# EAGLE library part LT3645 (library PowerProducts)
LT-Spice library generated with : ltspice.ulp from: D:/Program Files (x86)/LTC/LTspiceIV/lib/sym/PowerProducts/LT3650-4.1*.asy at 07.10.2012 16:22:44
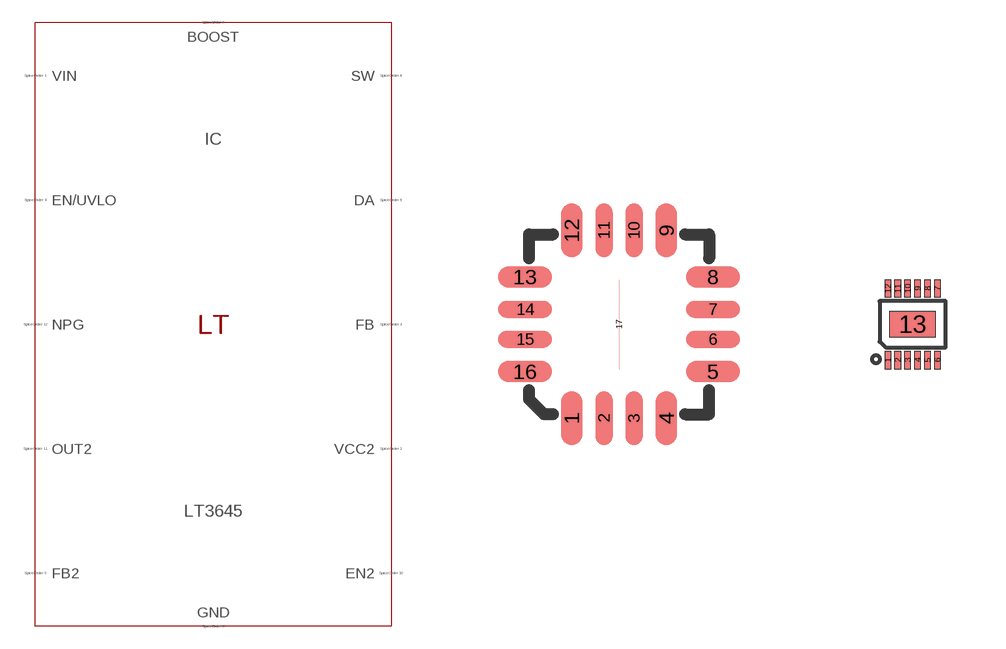
[diagram p80: symbol with the pads of QFN16(UD); footprints QFN16(UD), MSOP12(MSE)]

Designator prefix IC

## LT3645UD (SPICEMODEL: LT3645.sub; SPICEPREFIX: X; VALUE2: LT3645)  [QFN16(UD)]
3  NPG  pas
4  EN2  pas
5  EN/UVLO  pas
6  FB  pas
7  GND  pas
8  DA  pas
9  SW  pas
10  BOOST  pas
11  VIN  pas
14  VCC2  pas
15  OUT2  pas
16  FB2  pas
17  GND  pas

## LT3645 (SPICEMODEL: LT3645.sub; SPICEPREFIX: X; VALUE2: LT3645)  [MSOP12(MSE)]
1  EN/UVLO  pas
2  FB  pas
3  GND  pas
4  DA  pas
5  BOOST  pas
6  SW  pas
7  VIN  pas
8  VCC2  pas
9  OUT2  pas
10  FB2  pas
11  EN2  pas
12  NPG  pas
13  GND  pas

## Footprint QFN16(UD) (pad centres in mm)
Package generated from: QFN16(UD).asc (!PADS-POWERPCB-V9.3-BASIC! DESIGN DATABASE ASCII FILE 1.0) with :import-pads-powerpcb-v5.ulp Version 1.0.1 at 04.10.2012 14:11:23
smd 0.54 x 1.35: 1 -1.185,-2.348; 4 1.185,-2.348; 9 1.185,2.348; 12 -1.185,2.348
smd 0.42 x 1.35: 2 -0.375,-2.348; 3 0.375,-2.348; 10 0.375,2.348; 11 -0.375,2.348
smd 1.35 x 0.54: 5 2.348,-1.185; 8 2.348,1.185; 13 -2.348,1.185; 16 -2.348,-1.185
smd 1.35 x 0.42: 6 2.348,-0.375; 7 2.348,0.375; 14 -2.348,0.375; 15 -2.348,-0.375
smd 0 x 2.25: 17 0,0

## Footprint MSOP12(MSE) (pad centres in mm)
Package generated from: MSOP12(MSE).asc (!PADS-POWERPCB-V9.3-BASIC! DESIGN DATABASE ASCII FILE 1.0) with :import-pads-powerpcb-v5.ulp Version 1.0.1 at 04.10.2012 14:11:19
smd 0.165 x 0.435: 1 -0.619,-0.895; 2 -0.372,-0.895; 3 -0.124,-0.895; 4 0.124,-0.895; 5 0.372,-0.895; 6 0.619,-0.895; 7 0.619,0.895; 8 0.372,0.895; 9 0.124,0.895; 10 -0.124,0.895; 11 -0.372,0.895; 12 -0.619,0.895
smd 1.161 x 0.629: 13 0,0